# Altium schematic symbol library SN74LVC1G175.SchLib: 1 symbol
Pins are listed as number, name and electrical type; pins without a type are passive.

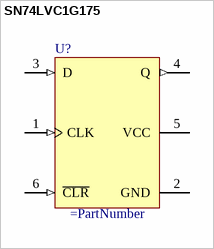
[diagram p0: symbol SN74LVC1G175]

## SN74LVC1G175
designator U?
pins: 1 CLK (in), 2 GND, 3 D (in), 4 Q (out), 5 VCC, 6 ~{CLR} (in)